# Altium footprint library Passive.PcbLib: 87 footprints (part 3 of 6)
Each footprint in its own frame and in the unit in brackets; x right, y up, seen from the top. Pads: shape width x height; smd on the part's side, far side on the other; paste and mask are expansions set on the pad; w line width, h text height; cw(c..) or ccw(c..) is an arc to the next point about the centre after c.
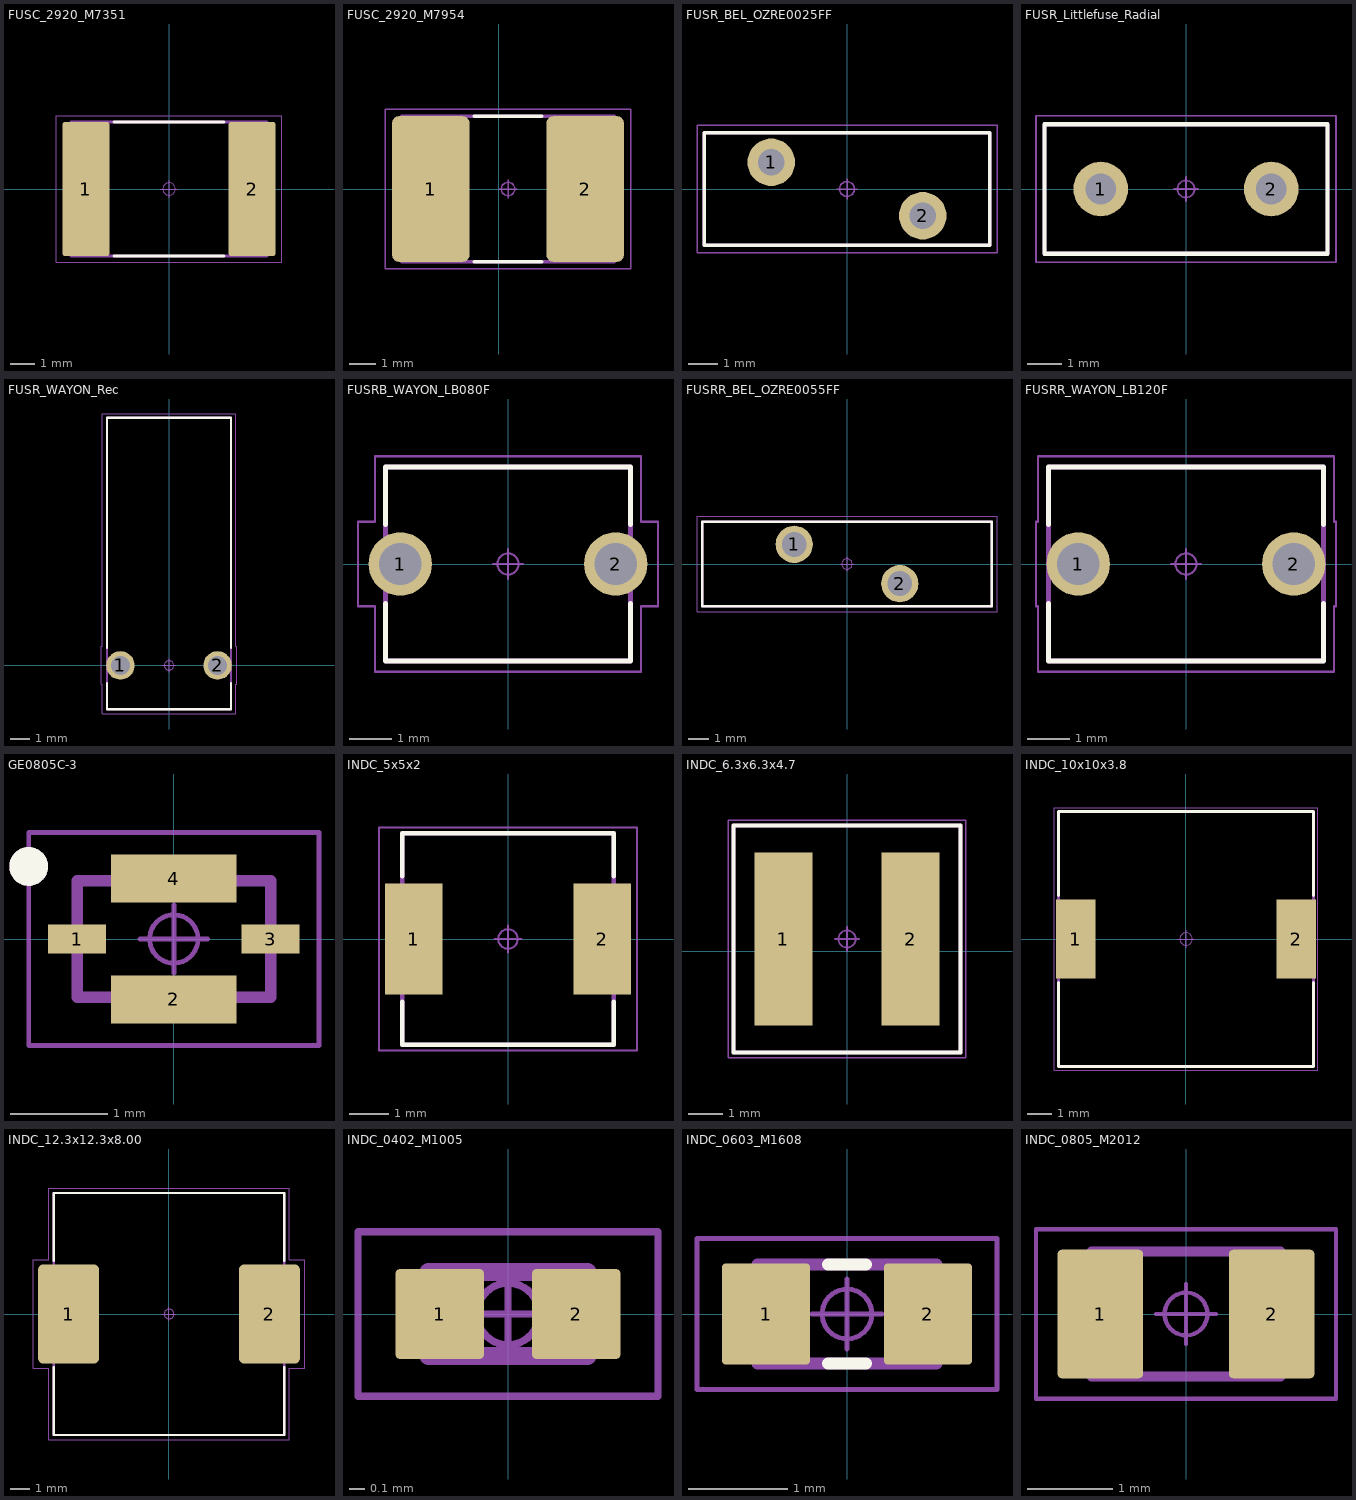
[diagram p2: the footprints below, top view; thin cyan lines are the x and y axes]

## FUSC_2920_M7351 [mm] "Fuse, Chip; 7.30 mm L X 5.10 mm W X 1.70 mm H body"
pads (2):
  rrect10% 1.89x5.41 smd: 1(-3.355,0) 2(3.355,0)
Top Overlay:
  lines w0.12: -2.23,-2.7 2.23,-2.7 ; -2.23,2.7 2.23,2.7
Mechanical 11:
  lines w0.12: -3.95,-2.7 3.95,-2.7 3.95,2.7 -3.95,2.7 -3.95,-2.7
  text ".Designator" at -6.759,-0.678 h3
Mechanical 15:
  circle w0.05: c0,0 r0.25
  lines w0.05: -0.35,0 0.35,0 ; 0,-0.35 0,0.35 ; -4.55,-2.96 4.55,-2.96 4.55,2.96 -4.55,2.96 -4.55,-2.96
3D body "FUSC_2920_M7351.STEP": height 1.7, standoff 0, extent -3.95,-2.7 3.95,2.7

## FUSC_2920_M7954 [mm]
pads (2):
  rrect17% 2.9x5.45 smd: 1(-2.54,0) 2(3.24,0)
Top Overlay:
  lines w0.12: -0.91,-2.72 1.61,-2.72 ; -0.91,2.72 1.61,2.72
Mechanical 11:
  lines w0.12: -3.64,-2.72 -3.64,2.72 4.34,2.72 4.34,-2.72 -3.64,-2.72
  text ".Designator" at -4.156,-0.452 h2
Mechanical 15:
  circle w0.05: c0.35,0 r0.25
  lines w0.05: 0,0 0.7,0 ; 0.35,-0.35 0.35,0.35 ; -4.24,-2.98 -4.24,2.98 4.94,2.98 4.94,-2.98 -4.24,-2.98
3D body "FUSC735X512X125L140.STEP": height 1.25, standoff 0, extent -3.64,-2.72 4.34,2.72

## FUSR_BEL_OZRE0025FF [mm] "Fuse, Radial (Dipped with Offset Leads); 5.10 mm C X 0.65 mm W 9.60 mm L X 3.80 mm T X 17.40 mm H body"
pads (2):
  round 1.6 hole 0.9 paste-2539.97: 1(-2.55,0.9) 2(2.55,-0.9)
Top Overlay:
  lines w0.12: -4.8,-1.9 -4.8,1.9 4.8,1.9 4.8,-1.9 -4.8,-1.9
Mechanical 11:
  lines w0.12: -4.8,-1.9 4.8,-1.9 4.8,1.9 -4.8,1.9 -4.8,-1.9
  text ".Designator" at -6.759,-0.678 h3
Mechanical 15:
  circle w0.05: c0,0 r0.25
  lines w0.05: -0.35,0 0.35,0 ; 0,-0.35 0,0.35 ; -5.05,-2.15 -5.05,2.15 5.05,2.15 5.05,-2.15 -5.05,-2.15
3D body "FUSR_BEL_OZRE0025FF.STEP": height 17.4, standoff -2, extent -4.8,-1.9 4.8,1.9

## FUSR_Littlefuse_Radial [mm] "Fuse, Radial (Disk); 5.00 mm C X 0.85 mm W 8.30 mm L X 3.80 mm T X 10.70 mm H body"
pads (2):
  round 1.6 hole 0.9 paste-2539.97: 1(-2.5,0) 2(2.5,0)
Top Overlay:
  lines w0.12: -4.15,-1.9 -4.15,1.9 4.15,1.9 4.15,-1.9 -4.15,-1.9
Mechanical 11:
  lines w0.12: -4.15,-1.9 4.15,-1.9 4.15,1.9 -4.15,1.9 -4.15,-1.9
  text ".Designator" at -2.253,-0.192 h1
Mechanical 15:
  circle w0.05: c0,0 r0.25
  lines w0.05: -0.35,0 0.35,0 ; 0,-0.35 0,0.35 ; -4.4,-2.15 -4.4,2.15 4.4,2.15 4.4,-2.15 -4.4,-2.15
3D body "CAPRB_MURATA_DEBF33D472ZN2A.stp": height 11.98, standoff -3.8, extent -4.485,-2.4 4.48,2.4

## FUSR_WAYON_Rec [mm] "Fuse, Radial (Dipped, Rectangular); 5.10 mm C X 0.70 mm W 6.50 mm L X 4.60 mm T X 11.00 mm H body"
pads (2):
  round 1.5 hole 1 paste-2539.97: 1(-2.55,0) 2(2.55,0)
Top Overlay:
  lines w0.12: -3.25,-0.93 -3.25,-2.3 3.25,-2.3 3.25,-0.93 ; -3.25,0.93 -3.25,13 3.25,13 3.25,0.93
Mechanical 11:
  lines w0.12: -3.25,-2.3 3.25,-2.3 3.25,13 -3.25,13 -3.25,-2.3
  text ".Designator" at -2.253,-0.226 h1
Mechanical 15:
  circle w0.05: c0,0 r0.25
  lines w0.05: -0.35,0 0.35,0 ; 0,-0.35 0,0.35 ; -3.55,-1 -3.5,-1 -3.5,-2.55 3.5,-2.55 3.5,-1 3.55,-1 3.55,1 3.5,1 3.5,13.2 -3.5,13.2 -3.5,1 -3.55,1 -3.55,-1
3D body "FUSRR510W70L650T460H1100.STEP": height 4.6, standoff 0, extent -3.25,0 3.25,13

## FUSRB_WAYON_LB080F [mm] "Fuse, Radial (Disk); 5.10 mm C X 0.70 mm W 5.80 mm L X 4.60 mm T X 9.90 mm H body"
pads (2):
  round 1.5 hole 1 paste-2539.97: 1(-2.55,0) 2(2.55,0)
Top Overlay:
  lines w0.12: -2.9,-0.93 -2.9,-2.3 2.9,-2.3 2.9,-0.93 ; -2.9,0.93 -2.9,2.3 2.9,2.3 2.9,0.93
Mechanical 11:
  lines w0.12: -2.9,-2.3 2.9,-2.3 2.9,2.3 -2.9,2.3 -2.9,-2.3
  text ".Designator" at -2.253,-0.226 h1
Mechanical 15:
  circle w0.05: c0,0 r0.25
  lines w0.05: -0.35,0 0.35,0 ; 0,-0.35 0,0.35 ; -3.55,-1 -3.15,-1 -3.15,-2.55 3.15,-2.55 3.15,-1 3.55,-1 3.55,1 3.15,1 3.15,2.55 -3.15,2.55 -3.15,1 -3.55,1 -3.55,-1
3D body "FUSRB_WAYON_LB080F.STEP": height 9.9, standoff -2, extent -2.9,-2.3 2.9,2.3

## FUSRR_BEL_OZRE0055FF [mm] "Fuse, Radial (Dipped with Offset Leads); 5.10 mm C X 0.90 mm W 14.00 mm L X 4.10 mm T X 21.70 mm H body"
pads (2):
  round 1.8 hole 1.2 paste-2539.97: 1(-2.55,0.95) 2(2.55,-0.95)
Top Overlay:
  lines w0.12: -7,-2.05 -7,2.05 7,2.05 7,-2.05 -7,-2.05
Mechanical 11:
  lines w0.12: -7,-2.05 7,-2.05 7,2.05 -7,2.05 -7,-2.05
  text ".Designator" at -4.506,-0.452 h2
Mechanical 15:
  circle w0.05: c0,0 r0.25
  lines w0.05: -0.35,0 0.35,0 ; 0,-0.35 0,0.35 ; -7.25,-2.3 -7.25,2.3 7.25,2.3 7.25,-2.3 -7.25,-2.3
3D body "FUSRR_BEL_OZRE0055FF.STEP": height 21.7, standoff -2, extent -7,-2.05 7,2.05

## FUSRR_WAYON_LB120F [mm] "Fuse, Radial (Dipped, Rectangular); 5.10 mm C X 0.70 mm W 6.50 mm L X 4.60 mm T X 11.00 mm H body"
pads (2):
  round 1.5 hole 1 paste-2539.97: 1(-2.55,0) 2(2.55,0)
Top Overlay:
  lines w0.12: -3.25,-0.93 -3.25,-2.3 3.25,-2.3 3.25,-0.93 ; -3.25,0.93 -3.25,2.3 3.25,2.3 3.25,0.93
Mechanical 11:
  lines w0.12: -3.25,-2.3 3.25,-2.3 3.25,2.3 -3.25,2.3 -3.25,-2.3
  text ".Designator" at -2.253,-0.226 h1
Mechanical 15:
  circle w0.05: c0,0 r0.25
  lines w0.05: -0.35,0 0.35,0 ; 0,-0.35 0,0.35 ; -3.55,-1 -3.5,-1 -3.5,-2.55 3.5,-2.55 3.5,-1 3.55,-1 3.55,1 3.5,1 3.5,2.55 -3.5,2.55 -3.5,1 -3.55,1 -3.55,-1
3D body "FUSRR_WAYON_LB120F.STEP": height 11, standoff -2, extent -3.25,-2.3 3.25,2.3

## GE0805C-3 [mm]
pads (4):
  rect 0.6x0.3 smd: 1(-1,0) 3(1,0)
  rect 1.3x0.5 smd: 2(0,-0.625) 4(0,0.625)
Top Overlay:
  circle w0.2: c-1.5,0.75 r0.1
  lines w0.12: -0.28,-0.6 0.28,-0.6 ; -0.28,0.6 0.28,0.6
Mechanical 11:
  lines w0.12: -1,-0.6 -1,0.6 1,0.6 1,-0.6 -1,-0.6
  text ".Designator" at -0.902,-0.091 h0.4
Mechanical 13:
  circle w0.2: c-1.5,0.75 r0.1
Mechanical 15:
  circle w0.05: c0,0 r0.25
  lines w0.05: -0.35,0 0.35,0 ; 0,-0.35 0,0.35 ; -1.5,-1.1 1.5,-1.1 1.5,1.1 -1.5,1.1 -1.5,-1.1
3D body "step_temp.STEP": height 1.3, standoff 0, extent -1,-0.6 1,0.6

## INDC_5x5x2 [mm] "Inductor, Dual Flat No-Lead (DFN 2 Pin); 2 pin, 5.18 mm L X 5.18 mm W X 2.00 mm H body"
pads (2):
  rect 1.48x2.86 smd: 1(-2.425,0) 2(2.425,0)
Top Overlay:
  lines w0.12: -2.72,-1.61 -2.72,-2.72 2.72,-2.72 2.72,-1.61 ; -2.72,1.61 -2.72,2.72 2.72,2.72 2.72,1.61
Mechanical 11:
  lines w0.12: -2.72,-2.72 2.72,-2.72 2.72,2.72 -2.72,2.72 -2.72,-2.72
  text ".Designator" at -2.253,-0.226 h1
Mechanical 15:
  circle w0.05: c0,0 r0.25
  lines w0.05: -0.35,0 0.35,0 ; 0,-0.35 0,0.35 ; -3.32,-2.87 3.32,-2.87 3.32,2.87 -3.32,2.87 -3.32,-2.87
3D body "INDDFN2_518X518X200L102X276.STEP": height 2, standoff 0, extent -2.935,-2.59 2.936,2.59

## INDC_6.3x6.3x4.7 [mm]
pads (2):
  rect 1.69x5.02 smd: 1(-1.85,0.35) 2(1.85,0.35)
Top Overlay:
  lines w0.12: -3.3,-2.95 -3.3,3.65 3.3,3.65 3.3,-2.95 -3.3,-2.95
Mechanical 11:
  lines w0.12: -3.3,-2.95 3.3,-2.95 3.3,3.65 -3.3,3.65 -3.3,-2.95
  text ".Designator" at -2.253,0.124 h1
Mechanical 15:
  circle w0.05: c0,0.35 r0.25
  lines w0.05: -0.35,0.35 0.35,0.35 ; 0,0 0,0.7 ; -3.45,-3.1 3.45,-3.1 3.45,3.8 -3.45,3.8 -3.45,-3.1
3D body "INDDFN2_630X630X500L145X485.STEP": height 5, standoff 0, extent -3.3,-2.95 3.3,3.65

## INDC_10x10x3.8 [mm] "SUMIDA IND 10x10x3.8"
pads (2):
  rect 1.6x3.2 smd: 1(-4.45,0) 2(4.45,0)
Top Overlay:
  lines w0.12: -5.15,-1.745 -5.15,-5.15 5.15,-5.15 5.15,-1.745 ; -5.15,1.745 -5.15,5.15 5.15,5.15 5.15,1.745
Mechanical 11:
  lines w0.12: -5.15,-5.15 5.15,-5.15 5.15,5.15 -5.15,5.15 -5.15,-5.15
  text ".Designator" at -2.253,-0.226 h1
Mechanical 15:
  circle w0.05: c0,0 r0.25
  lines w0.05: -0.35,0 0.35,0 ; 0,-0.35 0,0.35 ; -5.32,-5.3 5.32,-5.3 5.32,5.3 -5.32,5.3 -5.32,-5.3
3D body "INDDFN2_1000X1000X380L120X300.STEP": height 3.8, standoff 0, extent -5.15,-5.15 5.15,5.15

## INDC_12.3x12.3x8.00 [mm] "Inductor, Molded Body; 12.30 mm L X 12.30 mm W X 8.00 mm H body"
pads (2):
  rrect16% 3.14x5.12 smd: 1(-5.19,0) 2(5.19,0)
Top Overlay:
  lines w0.12: -5.95,-2.74 -5.95,-6.25 5.95,-6.25 5.95,-2.74 ; -5.95,2.74 -5.95,6.25 5.95,6.25 5.95,2.74
Mechanical 11:
  lines w0.12: -5.95,-6.25 -5.95,6.25 5.95,6.25 5.95,-6.25 -5.95,-6.25
  text ".Designator" at -2.253,-0.226 h1
Mechanical 15:
  circle w0.05: c0,0 r0.25
  lines w0.05: -0.35,0 0.35,0 ; 0,-0.35 0,0.35 ; -7.01,-2.81 -7.01,2.81 -6.2,2.81 -6.2,6.5 6.2,6.5 6.2,2.81 7.01,2.81 7.01,-2.81 6.2,-2.81 6.2,-6.5 -6.2,-6.5 -6.2,-2.81 -7.01,-2.81
3D body "INDM1230X1230X800L220X500.STEP": height 8, standoff 0, extent -6.25,-6.25 6.25,6.25

## INDC_0402_M1005 [mm] "Inductor, Chip; 1.00 mm L X 0.50 mm W X 0.55 mm H body"
pads (2):
  rrect10% 0.59x0.6 smd: 1(-0.455,0) 2(0.455,0)
Mechanical 11:
  lines w0.12: -0.53,-0.28 0.53,-0.28 0.53,0.28 -0.53,0.28 -0.53,-0.28
  text ".Designator" at -1.795,-0.18 h0.8
Mechanical 15:
  circle w0.05: c0,0 r0.206
  lines w0.05: -0.275,0 0.275,0 ; 0,-0.275 0,0.275 ; -1,-0.55 1,-0.55 1,0.55 -1,0.55 -1,-0.55
3D body "INDC0402_M1005.STEP": height 0.55, standoff 0, extent -0.525,-0.275 0.525,0.275

## INDC_0603_M1608 [mm] "Inductor, Chip; 1.60 mm L X 0.80 mm W X 1.00 mm H body"
pads (2):
  rrect10% 0.89x1.02 smd: 1(-0.815,0) 2(0.815,0)
Top Overlay:
  lines w0.12: -0.19,-0.5 0.19,-0.5 ; -0.19,0.5 0.19,0.5
Mechanical 11:
  lines w0.12: -0.9,-0.5 0.9,-0.5 0.9,0.5 -0.9,0.5 -0.9,-0.5
  text ".Designator" at -2.253,-0.226 h1
Mechanical 15:
  circle w0.05: c0,0 r0.25
  lines w0.05: -0.35,0 0.35,0 ; 0,-0.35 0,0.35 ; -1.51,-0.76 1.51,-0.76 1.51,0.76 -1.51,0.76 -1.51,-0.76
3D body "INDC_0603_M1608.STEP": height 1, standoff 0, extent -0.9,-0.5 0.9,0.5

## INDC_0805_M2012 [mm] "Inductor, Chip; 2.00 mm L X 1.25 mm W X 1.25 mm H body"
pads (2):
  rrect10% 1x1.5 smd: 1(-1,0) 2(1,0)
Mechanical 11:
  lines w0.12: -1.1,-0.73 1.1,-0.73 1.1,0.73 -1.1,0.73 -1.1,-0.73
  text ".Designator" at -2.253,-0.226 h1
Mechanical 15:
  circle w0.05: c0,0 r0.25
  lines w0.05: -0.35,0 0.35,0 ; 0,-0.35 0,0.35 ; -1.75,-0.99 1.75,-0.99 1.75,0.99 -1.75,0.99 -1.75,-0.99
3D body "INDC_0805_M2012.STEP": height 1.25, standoff 0, extent -1.1,-0.725 1.1,0.725